# EAGLE library part XRP6657IHB-F (library Exar_By_element14_Batch_1)
1.5A 1.3MHz Synchronous Step Down Converter
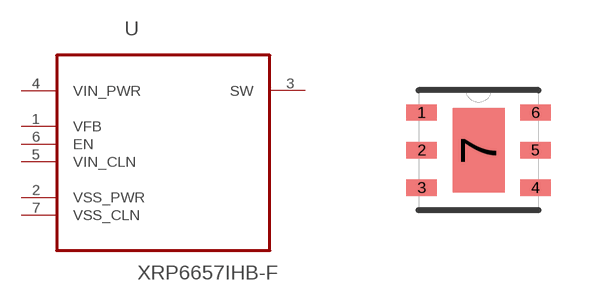
[diagram p95: symbol with the pads of DFN300X300X80-7N; footprint DFN300X300X80-7N]

Designator prefix U

## XRP6657IHB-F (MPN: XRP6657IHB-F; OC_FARNELL: 1829424; OC_NEWARK: -; PACKAGE: DFN-6; SUPPLIER: EXAR)  [DFN300X300X80-7N]
1  VFB  in
2  VSS_PWR  pas
3  SW  out
4  VIN_PWR  pwr
5  VIN_CLN  in
6  EN  in
7  VSS_CLN  pas

## Footprint DFN300X300X80-7N (pad centres in mm)
smd 0.762 x 0.406: 1 -1.422,0.94; 2 -1.422,0; 3 -1.422,-0.94; 4 1.422,-0.94; 5 1.422,0; 6 1.422,0.94
smd 1.295 x 2.108: 7 0,0